# Altium schematic symbol library 2021-05-23_04-37-46.SchLib: 2 symbols
Pins are listed as number, name and electrical type; pins without a type are passive.

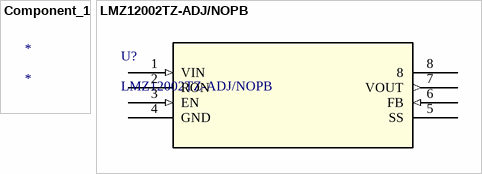
[diagram p0: symbols Component_1 to LMZ12002TZ-ADJ/NOPB]

## Component_1
designator *

## LMZ12002TZ-ADJ/NOPB
designator U?
2A SIMPLE SWITCHER® Power Module with 20V Maximum Input Voltage; Manufacturer: Texas Instruments; NSC_PackageReference: TZA07A; DatasheetURL: http://www.ti.com/lit/ds/symlink/lmz12002.pdf; basePN: LMZ12002; Manufacturer_Part_Number: LMZ12002TZ-ADJ/NOPB; Vendor: Texas Instruments; Copyright: Copyright (C) 2018 Accelerated Designs. All rights reserved; RefDes: RefDes; Type: DEV
footprint TZA07A
pins: 1 VIN (in), 2 RON, 3 EN (in), 4 GND (power), 5 SS, 6 FB (in), 7 VOUT (out), 8